# EAGLE library part 202B (library Displaytech (chr))
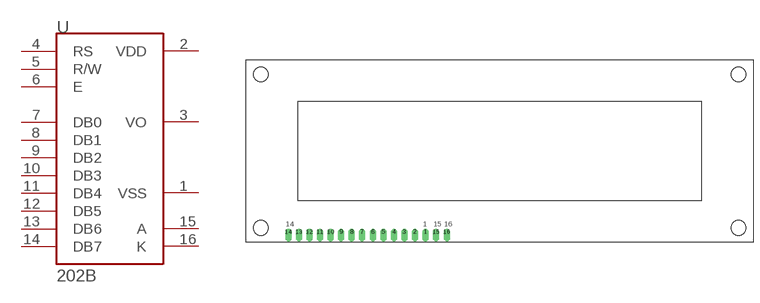
[diagram p9: symbol with the pads of 202B; footprint 202B]

Designator prefix -

## 202B  [202B]
1  VSS  pwr
2  VDD  pwr
3  VO  in
4  RS
5  R/W
6  E
7  DB0
8  DB1
9  DB2
10  DB3
11  DB4
12  DB5
13  DB6
14  DB7
15  A  pwr
16  K  pwr

## Footprint 202B (pad centres in mm)
drill 1.016 offset: 1 33.02,0; 2 30.48,0; 3 27.94,0; 4 25.4,0; 5 22.86,0; 6 20.32,0; 7 17.78,0; 8 15.24,0; 9 12.7,0; 10 10.16,0; 11 7.62,0; 12 5.08,0; 13 2.54,0; 14 0,0; 15 35.56,0; 16 38.1,0